# Altium schematic symbol library SCH - MCU - ATSAM - MICROCHIP SAML21E15B-MU QFN32.SchLib: 1 symbol
Pins are listed as number, name and electrical type; pins without a type are passive.

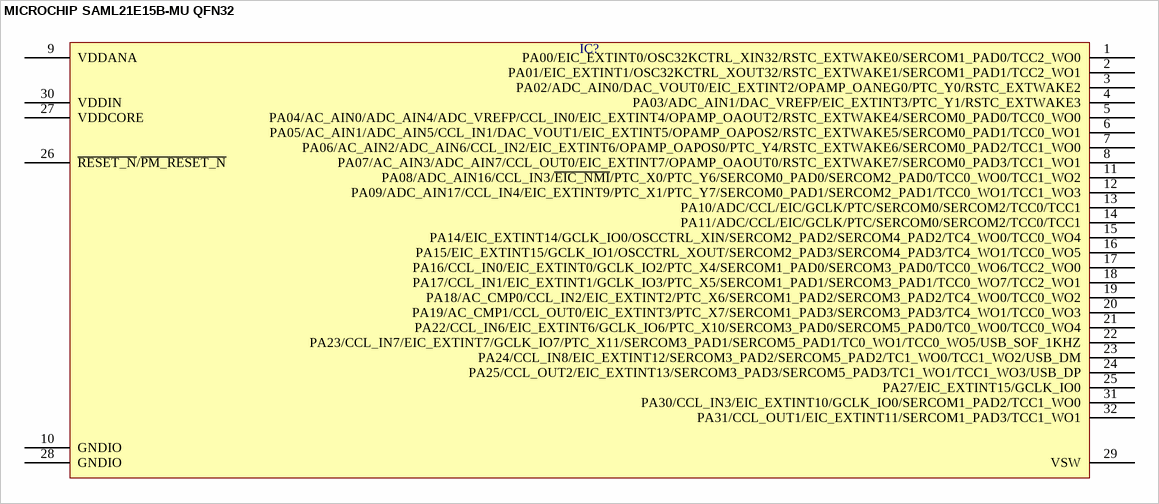
[diagram p0: symbol MICROCHIP SAML21E15B-MU QFN32]

## MICROCHIP SAML21E15B-MU QFN32
designator IC?  (value not drawn)
pins: 1 PA00/EIC_EXTINT0/OSC32KCTRL_XIN32/RSTC_EXTWAKE0/SERCOM1_PAD0/TCC2_WO0, 2 PA01/EIC_EXTINT1/OSC32KCTRL_XOUT32/RSTC_EXTWAKE1/SERCOM1_PAD1/TCC2_WO1, 3 PA02/ADC_AIN0/DAC_VOUT0/EIC_EXTINT2/OPAMP_OANEG0/PTC_Y0/RSTC_EXTWAKE2, 4 PA03/ADC_AIN1/DAC_VREFP/EIC_EXTINT3/PTC_Y1/RSTC_EXTWAKE3, 5 PA04/AC_AIN0/ADC_AIN4/ADC_VREFP/CCL_IN0/EIC_EXTINT4/OPAMP_OAOUT2/RSTC_EXTWAKE4/SERCOM0_PAD0/TCC0_WO0, 6 PA05/AC_AIN1/ADC_AIN5/CCL_IN1/DAC_VOUT1/EIC_EXTINT5/OPAMP_OAPOS2/RSTC_EXTWAKE5/SERCOM0_PAD1/TCC0_WO1, 7 PA06/AC_AIN2/ADC_AIN6/CCL_IN2/EIC_EXTINT6/OPAMP_OAPOS0/PTC_Y4/RSTC_EXTWAKE6/SERCOM0_PAD2/TCC1_WO0, 8 PA07/AC_AIN3/ADC_AIN7/CCL_OUT0/EIC_EXTINT7/OPAMP_OAOUT0/RSTC_EXTWAKE7/SERCOM0_PAD3/TCC1_WO1, 9 VDDANA, 10 GNDIO, 11 PA08/ADC_AIN16/CCL_IN3/~{EIC_NMI}/PTC_X0/PTC_Y6/SERCOM0_PAD0/SERCOM2_PAD0/TCC0_WO0/TCC1_WO2, 12 PA09/ADC_AIN17/CCL_IN4/EIC_EXTINT9/PTC_X1/PTC_Y7/SERCOM0_PAD1/SERCOM2_PAD1/TCC0_WO1/TCC1_WO3, 13 PA10/ADC/CCL/EIC/GCLK/PTC/SERCOM0/SERCOM2/TCC0/TCC1, 14 PA11/ADC/CCL/EIC/GCLK/PTC/SERCOM0/SERCOM2/TCC0/TCC1, 15 PA14/EIC_EXTINT14/GCLK_IO0/OSCCTRL_XIN/SERCOM2_PAD2/SERCOM4_PAD2/TC4_WO0/TCC0_WO4, 16 PA15/EIC_EXTINT15/GCLK_IO1/OSCCTRL_XOUT/SERCOM2_PAD3/SERCOM4_PAD3/TC4_WO1/TCC0_WO5, 17 PA16/CCL_IN0/EIC_EXTINT0/GCLK_IO2/PTC_X4/SERCOM1_PAD0/SERCOM3_PAD0/TCC0_WO6/TCC2_WO0, 18 PA17/CCL_IN1/EIC_EXTINT1/GCLK_IO3/PTC_X5/SERCOM1_PAD1/SERCOM3_PAD1/TCC0_WO7/TCC2_WO1, 19 PA18/AC_CMP0/CCL_IN2/EIC_EXTINT2/PTC_X6/SERCOM1_PAD2/SERCOM3_PAD2/TC4_WO0/TCC0_WO2, 20 PA19/AC_CMP1/CCL_OUT0/EIC_EXTINT3/PTC_X7/SERCOM1_PAD3/SERCOM3_PAD3/TC4_WO1/TCC0_WO3, 21 PA22/CCL_IN6/EIC_EXTINT6/GCLK_IO6/PTC_X10/SERCOM3_PAD0/SERCOM5_PAD0/TC0_WO0/TCC0_WO4, 22 PA23/CCL_IN7/EIC_EXTINT7/GCLK_IO7/PTC_X11/SERCOM3_PAD1/SERCOM5_PAD1/TC0_WO1/TCC0_WO5/USB_SOF_1KHZ, 23 PA24/CCL_IN8/EIC_EXTINT12/SERCOM3_PAD2/SERCOM5_PAD2/TC1_WO0/TCC1_WO2/USB_DM, 24 PA25/CCL_OUT2/EIC_EXTINT13/SERCOM3_PAD3/SERCOM5_PAD3/TC1_WO1/TCC1_WO3/USB_DP, 25 PA27/EIC_EXTINT15/GCLK_IO0, 26 ~{RESET_N}/~{PM_RESET_N}, 27 VDDCORE, 28 GNDIO, 29 VSW, 30 VDDIN, 31 PA30/CCL_IN3/EIC_EXTINT10/GCLK_IO0/SERCOM1_PAD2/TCC1_WO0, 32 PA31/CCL_OUT1/EIC_EXTINT11/SERCOM1_PAD3/TCC1_WO1